# EAGLE library part MPL115A1 (library Freescale)
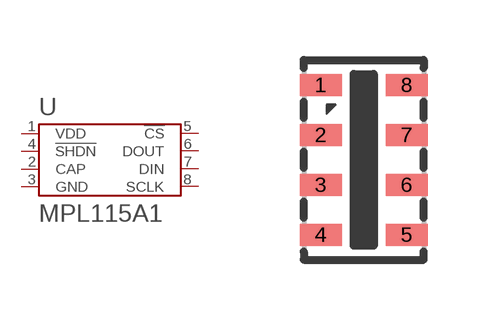
[diagram p1: symbol with the pads of MPL115A1; footprint MPL115A1]

Designator prefix U

## MPL115A1  [MPL115A1]
1  VDD
2  CAP
3  GND
4  !SHDN
5  !CS
6  DOUT
7  DIN
8  SCLK

## Footprint MPL115A1 (pad centres in mm)
smd 1.05 x 0.55: 1 -1.075,1.875; 2 -1.075,0.625; 3 -1.075,-0.625; 4 -1.075,-1.875; 5 1.075,-1.875; 6 1.075,-0.625; 7 1.075,0.625; 8 1.075,1.875